# Altium footprint library 004-H-01.PcbLib: 26 footprints (part 2 of 2)
Each footprint in its own frame and in the unit in brackets; x right, y up, seen from the top. Pads: shape width x height; smd on the part's side, far side on the other; paste and mask are expansions set on the pad; w line width, h text height; cw(c..) or ccw(c..) is an arc to the next point about the centre after c.
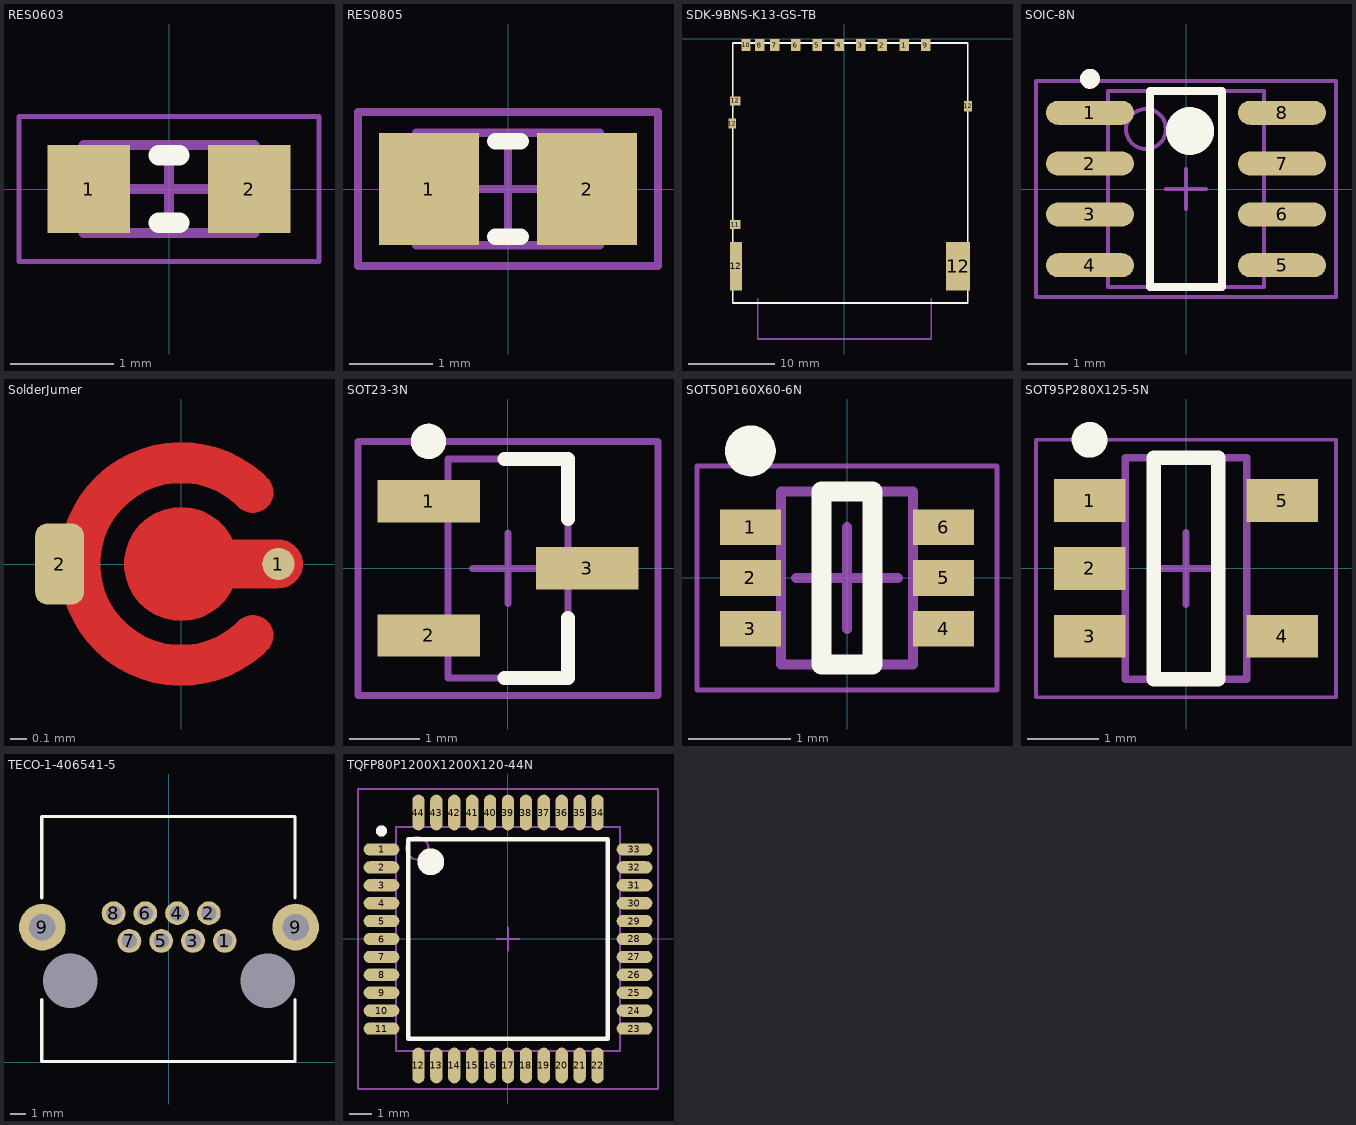
[diagram p1: the footprints below, top view; thin cyan lines are the x and y axes]

## RES0603 [mm] "Chip Resistor 0603"
height 0.6
pads (2):
  rect 0.8x0.85 smd: 1(-0.775,0) 2(0.775,0)
Top Overlay:
  lines w0.2: -0.1,-0.325 0.1,-0.325 ; -0.1,0.325 0.1,0.325
Assembly Top:
  lines w0.1: -0.825,-0.425 0.825,-0.425 0.825,0.425 -0.825,0.425 -0.825,-0.425
Courtyard Top:
  lines w0.05: -1.45,-0.7 1.45,-0.7 1.45,0.7 -1.45,0.7 -1.45,-0.7
  lines w0.1: -0.425,0 0.425,0 ; 0,-0.425 0,0.425
3D body: height 0.6, standoff 0, extent 0.575,-0.425 0.825,0.425
3D body: height 0.6, standoff 0, extent -0.825,-0.425 -0.575,0.425
3D body: height 0.6, standoff 0, extent -0.575,-0.425 0.575,0.425

## RES0805 [mm] "Chip Resistor, 2-Leads, Body 2.0x1.3mm, IPC Medium Density"
height 0.7
pads (2):
  rect 1.2x1.35 smd: 1(-0.95,0) 2(0.95,0)
Top Overlay:
  lines w0.2: -0.15,-0.575 0.15,-0.575 ; -0.15,0.575 0.15,0.575
Mechanical 13:
  lines w0.1: -1.1,-0.675 -1.1,0.675 1.1,0.675 1.1,-0.675 -1.1,-0.675
Mechanical 15:
  lines w0.1: -0.5,0 0.5,0 ; 0,-0.5 0,0.5 ; -1.8,-0.925 -1.8,0.925 1.8,0.925 1.8,-0.925 -1.8,-0.925
3D body: height 0.7, standoff 0, extent -1.1,-0.675 1.1,0.675
3D body "RES_0805.step": height 0.43, standoff -0.03, extent -1,-0.63 1,0.63

## SDK-9BNS-K13-GS-TB [mm] "Memory Socket SD card"
pads (16):
  rect 1.1x1.4 smd: 1(6.875,-0.7) 2(4.375,-0.7) 3(1.875,-0.7) 4(-0.625,-0.7) 5(-3.125,-0.7) 6(-5.625,-0.7) 7(-8.05,-0.7) 8(-9.75,-0.7) 9(9.375,-0.7)
  rect 1x1.4 smd: 10(-11.355,-0.7)
  rect 1.2x1 smd: 11(-12.595,-21.4) 12(-12.595,-7.15)
  rect 0.9x1.2 smd: 12(-12.945,-9.75) 12(14.255,-7.75)
  rect 1.35x5.6 smd: 12(-12.52,-26.2)
  rect 2.8x5.6 smd: 12(13.105,-26.2)
Top Overlay:
  lines w0.2: -12.895,-30.45 -12.895,-0.45 14.205,-0.45 14.205,-30.45 -12.895,-30.45
Mechanical 1:
  lines w0.2: -10,-30 -10,-34.6 10,-34.6 10,-30
3D body "SDK-9BNS-K13-GS-TB.STEP": height 2.95, standoff 0, extent -12.85,-30.4 14.25,-0.4

## SOIC-8N [mm] "SOIC, 8-Leads, Body 4.9x3.9mm (max), Pitch 1.27mm, IPC Medium Density"
height 1.75
pads (8):
  oval 2.2x0.6 smd: 1(-2.4,1.905) 2(-2.4,0.635) 3(-2.4,-0.635) 4(-2.4,-1.905) 5(2.4,-1.905) 6(2.4,-0.635) 7(2.4,0.635) 8(2.4,1.905)
Top Overlay:
  circle w0.6: c0.1,1.45 r0.3
  circle w0.25: c-2.4,2.755 r0.125
  lines w0.2: -0.9,-2.45 0.9,-2.45 0.9,2.45 -0.9,2.45 -0.9,-2.45
Mechanical 13:
  circle w0.1: c-1,1.5 r0.5
  lines w0.1: -1.95,-2.45 1.95,-2.45 1.95,2.45 -1.95,2.45 -1.95,-2.45
Mechanical 15:
  lines w0.1: -0.5,0 0.5,0 ; 0,-0.5 0,0.5 ; -3.75,-2.7 3.75,-2.7 3.75,2.7 -3.75,2.7 -3.75,-2.7
3D body: height 1.75, standoff 0.1, extent -1.95,-2.45 1.95,2.45
3D body "SOIC-8.step": height 1.75, standoff 0, extent -3,-2.45 3,2.45

## SolderJumer [mm] "Solder jumper open"
pads (2):
  round 0.2 smd paste+0 mask+0: 1(0.6,0)
  rrect50% 0.3x0.5 smd paste+0 mask+0: 2(-0.75,0)
Top Layer:
  region: 0.316,-0.15 0.304,-0.177 0.27,-0.225 0.228,-0.267 0.18,-0.302 0.127,-0.328 0.07,-0.344 0.011,-0.351 -0.048,-0.348 -0.106,-0.335 -0.16,-0.312 -0.211,-0.281 -0.255,-0.242 -0.292,-0.196 -0.32,-0.144 -0.34,-0.088 -0.35,-0.03 -0.35,0.03 -0.34,0.088 -0.32,0.144 -0.292,0.195 -0.255,0.242 -0.211,0.281 -0.16,0.312 -0.106,0.335 -0.048,0.348 0.011,0.351 0.07,0.344 0.127,0.328 0.18,0.302 0.228,0.267 0.27,0.225 0.304,0.177 0.316,0.15 0.6,0.15 0.62,0.15 0.658,0.14 0.692,0.12 0.72,0.092 0.74,0.058 0.75,0.02 0.75,-0.02 0.74,-0.058 0.72,-0.092 0.692,-0.12 0.658,-0.14 0.62,-0.15 0.6,-0.15
  region: 0.53,-0.53 0.502,-0.559 0.439,-0.609 0.372,-0.653 0.3,-0.689 0.224,-0.717 0.147,-0.737 0.067,-0.748 -0.013,-0.751 -0.094,-0.745 -0.173,-0.731 -0.25,-0.708 -0.324,-0.678 -0.395,-0.639 -0.461,-0.593 -0.522,-0.54 -0.576,-0.482 -0.624,-0.417 -0.666,-0.348 -0.699,-0.275 -0.724,-0.199 -0.741,-0.12 -0.75,-0.04 -0.75,0.04 -0.741,0.12 -0.724,0.199 -0.699,0.275 -0.666,0.348 -0.624,0.417 -0.576,0.482 -0.522,0.54 -0.461,0.593 -0.395,0.639 -0.324,0.678 -0.25,0.708 -0.173,0.731 -0.094,0.745 -0.013,0.751 0.067,0.748 0.147,0.737 0.224,0.717 0.3,0.689 0.372,0.653 0.439,0.609 0.502,0.559 0.53,0.53 0.542,0.519 0.558,0.49 0.567,0.458 0.567,0.425 0.558,0.394 0.542,0.365 0.519,0.342 0.49,0.325 0.458,0.317 0.425,0.317 0.394,0.325 0.365,0.342 0.354,0.354 0.33,0.376 0.278,0.416 0.221,0.448 0.161,0.473 0.098,0.49 0.033,0.499 -0.033,0.499 -0.098,0.49 -0.161,0.473 -0.221,0.448 -0.278,0.416 -0.33,0.376 -0.376,0.33 -0.416,0.278 -0.448,0.221 -0.473,0.161 -0.49,0.098 -0.499,0.033 -0.499,-0.033 -0.49,-0.098 -0.473,-0.161 -0.448,-0.221 -0.416,-0.278 -0.376,-0.33 -0.33,-0.376 -0.278,-0.416 -0.221,-0.448 -0.161,-0.473 -0.098,-0.49 -0.033,-0.499 0.033,-0.499 0.098,-0.49 0.161,-0.473 0.221,-0.448 0.278,-0.416 0.33,-0.376 0.354,-0.354 0.365,-0.342 0.394,-0.325 0.425,-0.317 0.458,-0.317 0.49,-0.325 0.519,-0.342 0.542,-0.365 0.558,-0.394 0.567,-0.425 0.567,-0.458 0.558,-0.49 0.542,-0.519
Top Solder:
  region: 0,-0.85 -0.084,-0.85 -0.248,-0.817 -0.403,-0.753 -0.542,-0.66 -0.66,-0.542 -0.753,-0.403 -0.817,-0.248 -0.85,-0.084 -0.85,0 -0.85,0.084 -0.817,0.248 -0.753,0.403 -0.66,0.542 -0.542,0.66 -0.403,0.753 -0.248,0.817 -0.084,0.85 0,0.85 0.084,0.85 0.248,0.817 0.403,0.753 0.542,0.66 0.66,0.542 0.753,0.403 0.817,0.248 0.85,0.084 0.85,0 0.85,-0.084 0.817,-0.248 0.753,-0.403 0.66,-0.542 0.542,-0.66 0.403,-0.753 0.248,-0.817 0.084,-0.85

## SOT23-3N [mm] "SOT23, 3-Leads, Body 3.1x3.0mm (max), Pitch 0.95mm, IPC Medium Density"
height 1.45
pads (3):
  rect 1.45x0.6 smd: 1(-1.125,0.95) 2(-1.125,-0.95) 3(1.125,0)
Top Overlay:
  circle w0.25: c-1.125,1.8 r0.125
  lines w0.2: -0.05,-1.55 0.85,-1.55 0.85,-0.7 ; -0.05,1.55 0.85,1.55 0.85,0.7
Mechanical 13:
  lines w0.1: -0.85,-1.55 0.85,-1.55 0.85,1.55 -0.85,1.55 -0.85,-1.55
Mechanical 15:
  lines w0.1: -0.5,0 0.5,0 ; 0,-0.5 0,0.5 ; -2.125,-1.8 2.125,-1.8 2.125,1.8 -2.125,1.8 -2.125,-1.8
3D body: height 1.45, standoff 0.1, extent -0.85,-1.55 0.85,1.55
3D body "CircuitWorks-SOT-23.step": height 1.05, standoff -0.05, extent -1.25,-1.5 1.25,1.5

## SOT50P160X60-6N [mm] "SOT23, 6-Leads, Body 1.60x1.60mm, Pitch 0.50mm, IPC Medium Density"
height 0.6
pads (6):
  rect 0.6x0.35 smd: 1(-0.95,0.5) 2(-0.95,0) 3(-0.95,-0.5) 4(0.95,-0.5) 5(0.95,0) 6(0.95,0.5)
Top Overlay:
  circle w0.25: c-0.95,1.25 r0.125
  lines w0.2: -0.25,-0.85 -0.25,0.85 0.25,0.85 0.25,-0.85 -0.25,-0.85
Assembly Top:
  lines w0.1: -0.65,-0.85 0.65,-0.85 0.65,0.85 -0.65,0.85 -0.65,-0.85
Courtyard Top:
  lines w0.05: -1.475,-1.1 1.475,-1.1 1.475,1.1 -1.475,1.1 -1.475,-1.1
  lines w0.1: -0.5,0 0.5,0 ; 0,-0.5 0,0.5
3D body: height 0.6, standoff 0.05, extent -0.65,-0.85 0.65,0.85

## SOT95P280X125-5N [mm] "SOT23, 5-Leads, Body 2.90x2.80mm, Pitch 0.95mm, IPC Medium Density"
height 1.25
pads (5):
  rect 1x0.6 smd: 1(-1.35,0.95) 2(-1.35,0) 3(-1.35,-0.95) 4(1.35,-0.95) 5(1.35,0.95)
Top Overlay:
  circle w0.25: c-1.35,1.8 r0.125
  lines w0.2: -0.45,-1.55 -0.45,1.55 0.45,1.55 0.45,-1.55 -0.45,-1.55
Assembly Top:
  lines w0.1: -0.85,-1.55 0.85,-1.55 0.85,1.55 -0.85,1.55 -0.85,-1.55
Courtyard Top:
  lines w0.05: -2.1,-1.8 2.1,-1.8 2.1,1.8 -2.1,1.8 -2.1,-1.8
  lines w0.1: -0.5,0 0.5,0 ; 0,-0.5 0,0.5
3D body: height 1.25, standoff 0.05, extent -0.85,-1.55 0.85,1.55

## TECO-1-406541-5 [mm] "MODULAR, JACK, THT, R/A, RJ45, 8P8C"
pads (12):
  round 0 hole 3.5 unplated: 0(-6.323,5.258) 0(6.377,5.258)
  round 1.524 hole 1: 1(3.607,7.798) 2(2.587,9.578) 3(1.567,7.798) 4(0.547,9.578) 5(-0.473,7.798) 6(-1.493,9.578) 7(-2.513,7.798) 8(-3.533,9.578)
  round 3 hole 1.7: 9(-8.103,8.688) 9(8.157,8.688)
Top Overlay:
  lines w0.2: -8.143,4.048 -8.143,0.048 8.107,0.048 8.107,4.048 ; -8.143,10.548 -8.143,15.798 8.107,15.798 8.107,10.548
3D body "c-1-406541-5-m1-3d.stp": height 13.4, standoff -4.12, extent -8.128,0 8.128,15.748

## TQFP80P1200X1200X120-44N [mm] "TQFP, 44-Leads, Body 12.0x12.0mm (max), Pitch 0.80mm, IPC Medium Density"
height 1.2
pads (44):
  oval 1.6x0.55 smd: 1(-5.65,4) 2(-5.65,3.2) 3(-5.65,2.4) 4(-5.65,1.6) 5(-5.65,0.8) 6(-5.65,0) 7(-5.65,-0.8) 8(-5.65,-1.6) 9(-5.65,-2.4) 10(-5.65,-3.2) 11(-5.65,-4) 23(5.65,-4) 24(5.65,-3.2) 25(5.65,-2.4) 26(5.65,-1.6) 27(5.65,-0.8) 28(5.65,0) 29(5.65,0.8) 30(5.65,1.6) 31(5.65,2.4) 32(5.65,3.2) 33(5.65,4)
  oval 0.55x1.6 smd: 12(-4,-5.65) 13(-3.2,-5.65) 14(-2.4,-5.65) 15(-1.6,-5.65) 16(-0.8,-5.65) 17(0,-5.65) 18(0.8,-5.65) 19(1.6,-5.65) 20(2.4,-5.65) 21(3.2,-5.65) 22(4,-5.65) 34(4,5.65) 35(3.2,5.65) 36(2.4,5.65) 37(1.6,5.65) 38(0.8,5.65) 39(0,5.65) 40(-0.8,5.65) 41(-1.6,5.65) 42(-2.4,5.65) 43(-3.2,5.65) 44(-4,5.65)
Top Overlay:
  circle w0.25: c-5.65,4.825 r0.125
  circle w0.6: c-3.45,3.45 r0.3
  lines w0.2: -4.45,-4.45 -4.45,4.45 4.45,4.45 4.45,-4.45 -4.45,-4.45
Mechanical 13:
  circle w0.1: c-4.05,4.05 r0.5
  lines w0.1: -5,-5 -5,5 5,5 5,-5 -5,-5
Mechanical 15:
  lines w0.1: -0.5,0 0.5,0 ; 0,-0.5 0,0.5 ; -6.7,-6.7 -6.7,6.7 6.7,6.7 6.7,-6.7 -6.7,-6.7
3D body: height 1.2, standoff 0.05, extent -5,-5 5,5